# Altium schematic symbol library AT32UC3A3256-ALUR.Schlib: 1 symbol
Pins are listed as number, name and electrical type; pins without a type are passive.

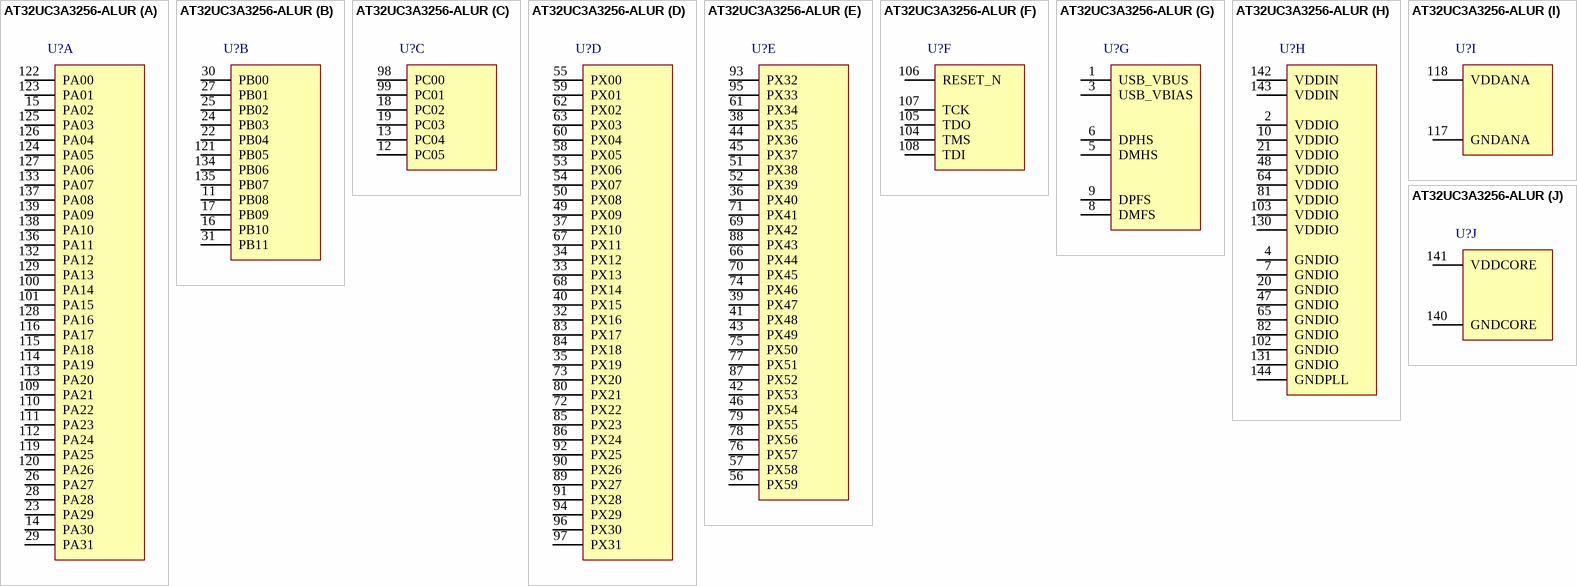
[diagram p0: symbol AT32UC3A3256-ALUR]

## AT32UC3A3256-ALUR
designator U?
part A pins: 14 PA30 (power), 15 PA02 (power), 23 PA29 (power), 26 PA27 (power), 28 PA28 (power), 29 PA31 (power), 100 PA14 (power), 101 PA15 (power), 109 PA21 (power), 110 PA22 (power), 111 PA23 (power), 112 PA24 (power), 113 PA20 (power), 114 PA19 (power), 115 PA18 (power), 116 PA17 (power), 119 PA25 (power), 120 PA26 (power), 122 PA00 (power), 123 PA01 (power), 124 PA05 (power), 125 PA03 (power), 126 PA04 (power), 127 PA06 (power), 128 PA16 (power), 129 PA13 (power), 132 PA12 (power), 133 PA07 (power), 136 PA11 (power), 137 PA08 (power), 138 PA10 (power), 139 PA09 (power)
part B pins: 11 PB08 (power), 16 PB10 (power), 17 PB09 (power), 22 PB04 (power), 24 PB03 (power), 25 PB02 (power), 27 PB01 (power), 30 PB00 (power), 31 PB11 (power), 121 PB05 (power), 134 PB06 (power), 135 PB07 (power)
part C pins: 12 PC05 (power), 13 PC04 (power), 18 PC02 (power), 19 PC03 (power), 98 PC00 (power), 99 PC01 (power)
part D pins: 32 PX16 (power), 33 PX13 (power), 34 PX12 (power), 35 PX19 (power), 37 PX10 (power), 40 PX15 (power), 49 PX09 (power), 50 PX08 (power), 53 PX06 (power), 54 PX07 (power), 55 PX00 (power), 58 PX05 (power), 59 PX01 (power), 60 PX04 (power), 62 PX02 (power), 63 PX03 (power), 67 PX11 (power), 68 PX14 (power), 72 PX22 (power), 73 PX20 (power), 80 PX21 (power), 83 PX17 (power), 84 PX18 (power), 85 PX23 (power), 86 PX24 (power), 89 PX27 (power), 90 PX26 (power), 91 PX28 (power), 92 PX25 (power), 94 PX29 (power), 96 PX30 (power), 97 PX31 (power)
part E pins: 36 PX40 (power), 38 PX35 (power), 39 PX47 (power), 41 PX48 (power), 42 PX53 (power), 43 PX49 (power), 44 PX36 (power), 45 PX37 (power), 46 PX54 (power), 51 PX38 (power), 52 PX39 (power), 56 PX59 (power), 57 PX58 (power), 61 PX34 (power), 66 PX44 (power), 69 PX42 (power), 70 PX45 (power), 71 PX41 (power), 74 PX46 (power), 75 PX50 (power), 76 PX57 (power), 77 PX51 (power), 78 PX56 (power), 79 PX55 (power), 87 PX52 (power), 88 PX43 (power), 93 PX32 (power), 95 PX33 (power)
part F pins: 104 TMS (power), 105 TDO (power), 106 RESET_N (power), 107 TCK (power), 108 TDI (power)
part G pins: 1 USB_VBUS (power), 3 USB_VBIAS (power), 5 DMHS (power), 6 DPHS (power), 8 DMFS (power), 9 DPFS (power)
part H pins: 2 VDDIO (power), 4 GNDIO (power), 7 GNDIO (power), 10 VDDIO (power), 20 GNDIO (power), 21 VDDIO (power), 47 GNDIO (power), 48 VDDIO (power), 64 VDDIO (power), 65 GNDIO (power), 81 VDDIO (power), 82 GNDIO (power), 102 GNDIO (power), 103 VDDIO (power), 130 VDDIO (power), 131 GNDIO (power), 142 VDDIN (power), 143 VDDIN (power), 144 GNDPLL (power)
part I pins: 117 GNDANA (power), 118 VDDANA (power)
part J pins: 140 GNDCORE (power), 141 VDDCORE (power)